# Altium schematic symbol library MAX-M10S-00B.SchLib: 1 symbol
Pins are listed as number, name and electrical type; pins without a type are passive.

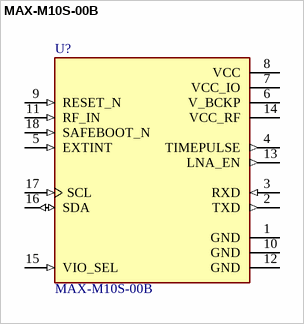
[diagram p0: symbol MAX-M10S-00B]

## MAX-M10S-00B
designator U?
u-blox M10 GNSS module ROM, TCXO, LNA, SAW LCC, 9.7x10 mm, 500 pcs/reel; Geometry.Height: 6.8mm; Mouser Part Number: 377-SAM-M10Q-00B; Mouser Price/Stock: https://www.mouser.ch/ProductDetail/u-blox/MAX-M10S-00B?qs=A6eO%252BMLsxmT0PfQYPb7LLQ%3D%3D; Manufacturer_Name: U-Blox; Manufacturer_Part_Number: MAX-M10S-00B; Datasheet Link: https://content.u-blox.com/sites/default/files/MAX-M10S_DataSheet_UBX-20035208.pdf; Supplier 1: Digikey; Supplier Part Number 1: 672-MAX-M10S-00BCT-ND
footprint XCVR_MAX-M8C-0-10
pins: 1 GND (power), 2 TXD (out), 3 RXD (in), 4 TIMEPULSE (out), 5 EXTINT (in), 6 V_BCKP (power), 7 VCC_IO (power), 8 VCC (power), 9 RESET_N (in), 10 GND (power), 11 RF_IN (in), 12 GND (power), 13 LNA_EN (out), 14 VCC_RF (power), 15 VIO_SEL (in), 16 SDA (io), 17 SCL (in), 18 SAFEBOOT_N (in)